# Altium schematic symbol library SN74AHC541.SchLib: 1 symbol
Pins are listed as number, name and electrical type; pins without a type are passive.

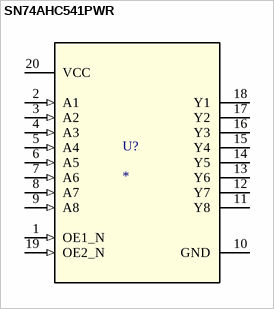
[diagram p0: symbol SN74AHC541PWR]

## SN74AHC541PWR
designator U?
Octal Buffers/Drivers With 3-State Outputs; PartNumber: SN74AHC541PW; Manufacturer: Texas Instruments; CompType: IC; PIN_COUNT: 20; PackageReference: PW0020A; MountType: SMT; RoHS: Y; RefDes: RefDes; TYPE: TYPE; Value: Value
footprint PW0020A
pins: 1 OE1_N (in), 2 A1 (in), 3 A2 (in), 4 A3 (in), 5 A4 (in), 6 A5 (in), 7 A6 (in), 8 A7 (in), 9 A8 (in), 10 GND (power), 11 Y8 (hiz), 12 Y7 (hiz), 13 Y6 (hiz), 14 Y5 (hiz), 15 Y4 (hiz), 16 Y3 (hiz), 17 Y2 (hiz), 18 Y1 (hiz), 19 OE2_N (in), 20 VCC (power)